# Altium footprint library FC68148S.PcbLib: 1 footprints
Each footprint in its own frame and in the unit in brackets; x right, y up, seen from the top. Pads: shape width x height; smd on the part's side, far side on the other; paste and mask are expansions set on the pad; w line width, h text height; cw(c..) or ccw(c..) is an arc to the next point about the centre after c.
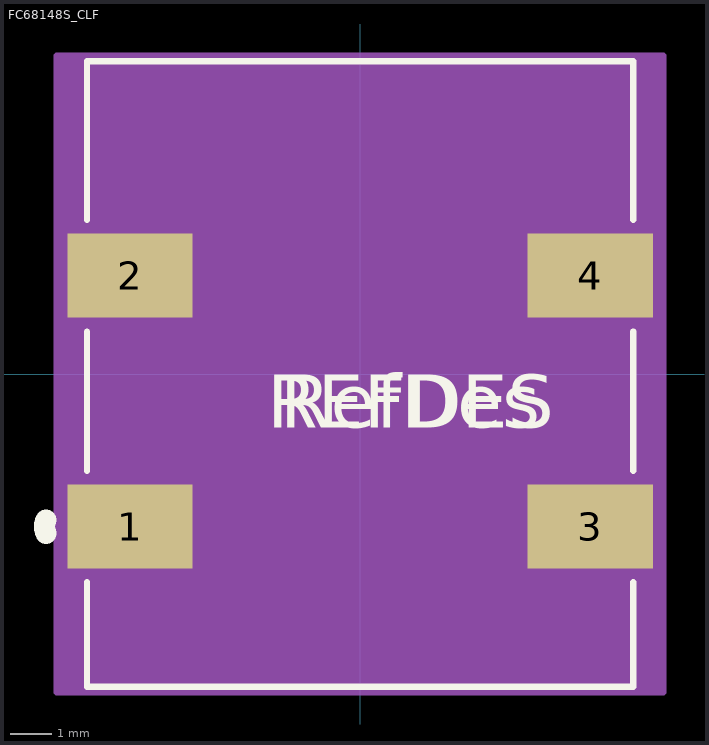
[diagram p0: the footprint, top view; thin cyan lines are the x and y axes]

## FC68148S_CLF [mil]
pads (4):
  rect 118x79 smd paste+0 mask+0: 1(-216.54,-143.57) 2(-216.54,92.65) 3(216.54,-143.57) 4(216.54,92.65)
Top Overlay:
  lines w6: -257,-196.17 -257,-294.5 257,-294.5 257,-196.17 ; -257,-90.97 -257,40.05 ; -257,145.25 -257,294.5 257,294.5 257,145.25 ; 257,-90.97 257,40.05
  lines w20: -295.64,-149.82 cw(c-282,-143.57) -295.64,-137.32
  text "REFDES" at -87.5,-50.46 h50
  text "RefDes" at -75,-50.46 h50
Bottom Overlay:
  circle w20: c-282,-143.57 r15
Mechanical 13:
  circle w20: c-216.54,-218.57 r15
  lines w1: -252,-289.5 -252,289.5 252,289.5 252,-289.5 -252,-289.5
  text "RefDes2" at -87.5,-50.46 h50
Mechanical 15:
  region: 285.54,299.5 -285.54,299.5 -285.54,-299.5 285.54,-299.5
  lines w6: -285.54,-299.5 285.54,-299.5 285.54,299.5 -285.54,299.5 -285.54,-299.5
3D body "2.1mm LiDAR power surface mount plug.stp": height 429.13, standoff -49.21, extent -250,-290 250,294.65